# EAGLE library part HEADER6 (library robots)
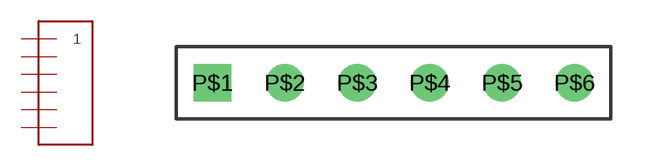
[diagram p9: symbol with the pads of 1X6; footprint 1X6]

Designator prefix -

## HEADER6  [1X6]
P$1  1
P$2  P$2
P$3  P$3
P$4  P$4
P$5  P$5
P$6  P$6

## Footprint 1X6 (pad centres in mm)
drill 0.813 square: P$1 0,0
drill 0.813 round: P$2 2.54,0; P$3 5.08,0; P$4 7.62,0; P$5 10.16,0; P$6 12.7,0